# Altium footprint library PC110.PcbLib: 67 footprints (part 4 of 5)
Each footprint in its own frame and in the unit in brackets; x right, y up, seen from the top. Pads: shape width x height; smd on the part's side, far side on the other; paste and mask are expansions set on the pad; w line width, h text height; cw(c..) or ccw(c..) is an arc to the next point about the centre after c.
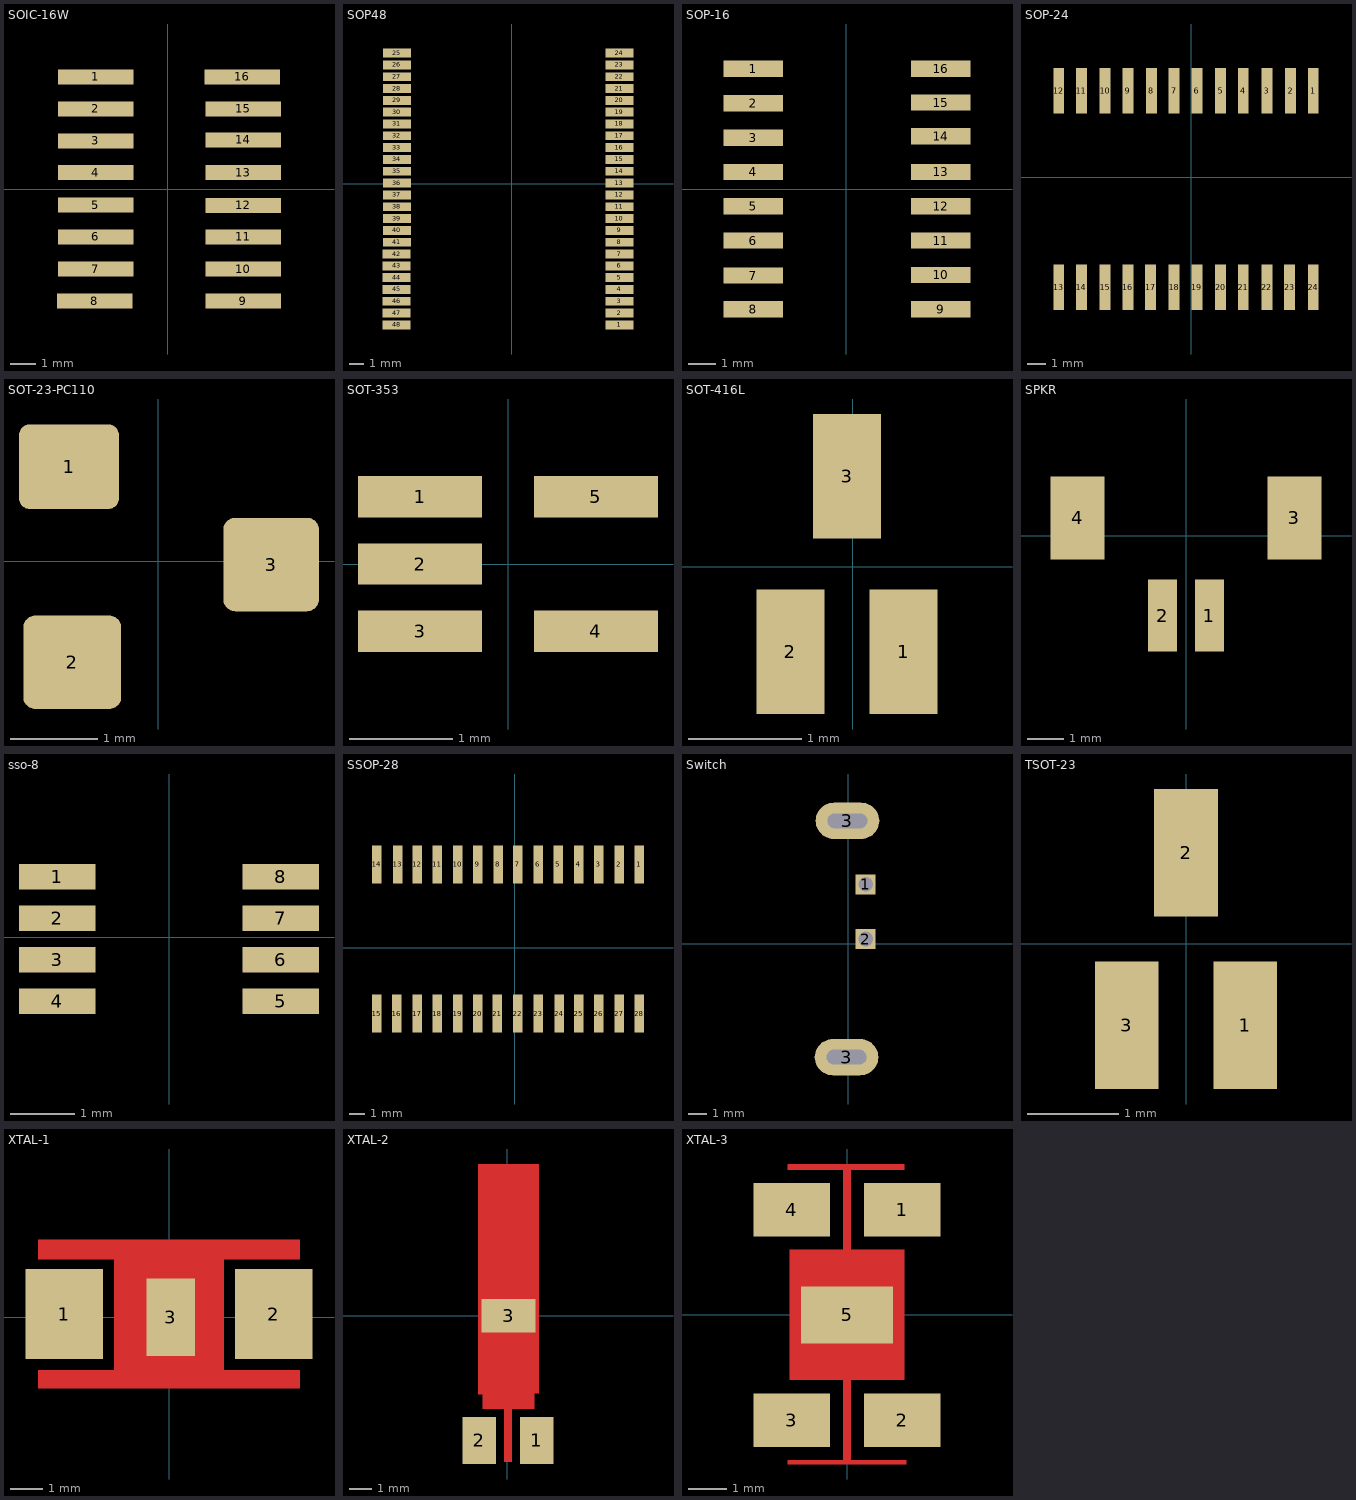
[diagram p3: the footprints below, top view; thin cyan lines are the x and y axes]

## SOIC-16W [mm]
pads (16):
  rect 3x0.6 smd: 1(-2.85,4.445) 2(-2.85,3.175) 3(-2.85,1.905) 4(-2.85,0.65) 5(-2.85,-0.635) 6(-2.85,-1.9) 7(-2.85,-3.175) 8(-2.9,-4.445) 9(3,-4.45) 10(3,-3.175) 11(3,-1.9) 12(3,-0.65) 13(3,0.65) 14(3,1.95) 15(3,3.175) 16(2.95,4.45)

## SOP48 [mm]
pads (48):
  rect 1.9x0.6 smd: 1(7.3,-9.55) 2(7.3,-8.75) 3(7.3,-7.95) 4(7.3,-7.15) 5(7.3,-6.35) 6(7.3,-5.55) 7(7.3,-4.75) 8(7.3,-3.95) 9(7.3,-3.15) 10(7.3,-2.35) 11(7.3,-1.55) 12(7.3,-0.75) 13(7.3,0.05) 14(7.3,0.85) 15(7.3,1.65) 16(7.3,2.45) 17(7.3,3.25) 18(7.3,4.05) 19(7.3,4.85) 20(7.3,5.65) 21(7.3,6.45) 22(7.3,7.25) 23(7.3,8.05) 24(7.3,8.85) 25(-7.75,8.85) 26(-7.75,8.05) 27(-7.75,7.25) 28(-7.75,6.45) 29(-7.75,5.65) 30(-7.75,4.85) 31(-7.75,4.05) 32(-7.75,3.25) 33(-7.75,2.45) 34(-7.75,1.65) 35(-7.75,0.85) 36(-7.75,0.05) 37(-7.75,-0.75) 38(-7.75,-1.55) 39(-7.75,-2.35) 40(-7.75,-3.15) 41(-7.75,-3.95) 42(-7.775,-4.75) 43(-7.775,-5.55) 44(-7.775,-6.35) 45(-7.775,-7.15) 46(-7.775,-7.95) 47(-7.775,-8.75) 48(-7.775,-9.55)

## SOP-16 [mm]
pads (16):
  rect 2.2x0.6 smd: 1(-3.45,4.45) 2(-3.45,3.175) 3(-3.45,1.9) 4(-3.45,0.635) 5(-3.45,-0.635) 6(-3.45,-1.905) 7(-3.45,-3.2) 8(-3.45,-4.445) 9(3.5,-4.445) 10(3.5,-3.175) 11(3.5,-1.905) 12(3.5,-0.635) 13(3.5,0.635) 14(3.5,1.95) 15(3.5,3.2) 16(3.5,4.45)

## SOP-24 [mm]
pads (24):
  rect 0.6x2.5 smd: 1(6.7,4.75) 2(5.45,4.75) 3(4.15,4.75) 4(2.85,4.75) 5(1.6,4.75) 6(0.3,4.75) 7(-0.95,4.75) 8(-2.2,4.75) 9(-3.5,4.75) 10(-4.75,4.75) 11(-6.05,4.75) 12(-7.3,4.75) 13(-7.3,-6.05) 14(-6.05,-6.05) 15(-4.75,-6.05) 16(-3.5,-6.05) 17(-2.25,-6.05) 18(-0.95,-6.05) 19(0.3,-6.05) 20(1.6,-6.05) 21(2.85,-6.05) 22(4.15,-6.05) 23(5.4,-6.05) 24(6.7,-6.05)

## SOT-23-PC110 [mm]
pads (3):
  rrect25% 1.15x0.975 smd: 1(-1.025,1.088)
  rrect25% 1.125x1.075 smd: 2(-0.988,-1.162)
  rrect25% 1.1x1.075 smd: 3(1.3,-0.038)

## SOT-353 [mm]
pads (5):
  rect 1.2x0.4 smd: 1(-0.85,0.65) 2(-0.85,0) 3(-0.85,-0.65) 4(0.85,-0.65) 5(0.85,0.65)

## SOT-416L [mm]
pads (3):
  rect 0.6x1.1 smd: 1(0.45,-0.75) 2(-0.55,-0.75) 3(-0.05,0.8)

## SPKR [mm]
pads (4):
  rect 0.8x2 smd: 1(0.65,-2.2) 2(-0.65,-2.2)
  rect 1.5x2.3 smd: 3(3,0.5) 4(-3,0.5)

## sso-8 [mm]
pads (8):
  rect 1.2x0.4 smd: 1(-1.75,0.95) 2(-1.75,0.3) 3(-1.75,-0.35) 4(-1.75,-1) 5(1.75,-1) 6(1.75,-0.35) 7(1.75,0.3) 8(1.75,0.95)

## SSOP-28 [mm]
pads (28):
  rect 0.6x2.4 smd: 1(7.85,5.25) 2(6.6,5.25) 3(5.3,5.25) 4(4.05,5.25) 5(2.75,5.25) 6(1.5,5.25) 7(0.2,5.25) 8(-1.05,5.25) 9(-2.35,5.25) 10(-3.6,5.25) 11(-4.9,5.25) 12(-6.15,5.25) 13(-7.4,5.25) 14(-8.7,5.25) 15(-8.7,-4.175) 16(-7.45,-4.175) 17(-6.15,-4.175) 18(-4.9,-4.175) 19(-3.6,-4.175) 20(-2.35,-4.175) 21(-1.1,-4.175) 22(0.2,-4.175) 23(1.5,-4.175) 24(2.8,-4.175) 25(4.05,-4.175) 26(5.3,-4.175) 27(6.6,-4.175) 28(7.85,-4.175)

## Switch [mm]
pads (4):
  rect 1.1x1.1 hole 0.8: 1(0.95,3.25) 2(0.95,0.25)
  rrect100% 3.5x2 hole 2.2 slot 0.8 at 90 deg: 3(-0.1,-6.25) 3(-0.05,6.75)

## TSOT-23 [mm]
pads (3):
  rect 0.7x1.4 smd: 1(0.65,-0.9) 2(0,1) 3(-0.65,-0.9)

## Untitled [mm]

## XTAL-1 [mm]
pads (3):
  rect 2.4x2.8 smd: 1(-3.25,0.1) 2(3.25,0.1)
  rect 1.5x2.4 smd: 3(0.05,0)
F.Cu:
  region: 4.05,1.8 1.7,1.8 1.7,-1.65 4.05,-1.65 4.05,-2.2 -4.05,-2.2 -4.05,-1.65 -1.7,-1.65 -1.7,1.8 -4.05,1.8 -4.05,2.4 4.05,2.4

## XTAL-2 [mm]
pads (3):
  rect 1.5x2.1 smd: 1(1.3,-5.55) 2(-1.25,-5.55)
  rect 2.4x1.5 smd: 3(0.05,0)
F.Cu:
  region: 1.4,-3.45 1.2,-3.45 1.2,-4.15 0.2,-4.15 0.2,-6.5 -0.15,-6.5 -0.15,-4.15 -1.1,-4.15 -1.1,-3.5 -1.3,-3.5 -1.3,6.75 1.4,6.75

## XTAL-3 [mm]
pads (5):
  rect 2x1.4 smd: 1(1.45,2.75) 2(1.45,-2.75) 3(-1.45,-2.75) 4(-1.45,2.75)
  rect 2.4x1.5 smd: 5(0,0)
F.Cu:
  region: 1.5,3.8 0.1,3.8 0.1,1.7 1.5,1.7 1.5,-1.7 0.1,-1.7 0.1,-3.8 1.55,-3.8 1.55,-3.9 -1.55,-3.9 -1.55,-3.8 -0.1,-3.8 -0.1,-1.7 -1.5,-1.7 -1.5,1.7 -0.1,1.7 -0.1,3.8 -1.55,3.8 -1.55,3.95 1.5,3.95